# Altium footprint library 1-826631-0.PcbLib: 1 footprints
Each footprint in its own frame and in the unit in brackets; x right, y up, seen from the top. Pads: shape width x height; smd on the part's side, far side on the other; paste and mask are expansions set on the pad; w line width, h text height; cw(c..) or ccw(c..) is an arc to the next point about the centre after c.
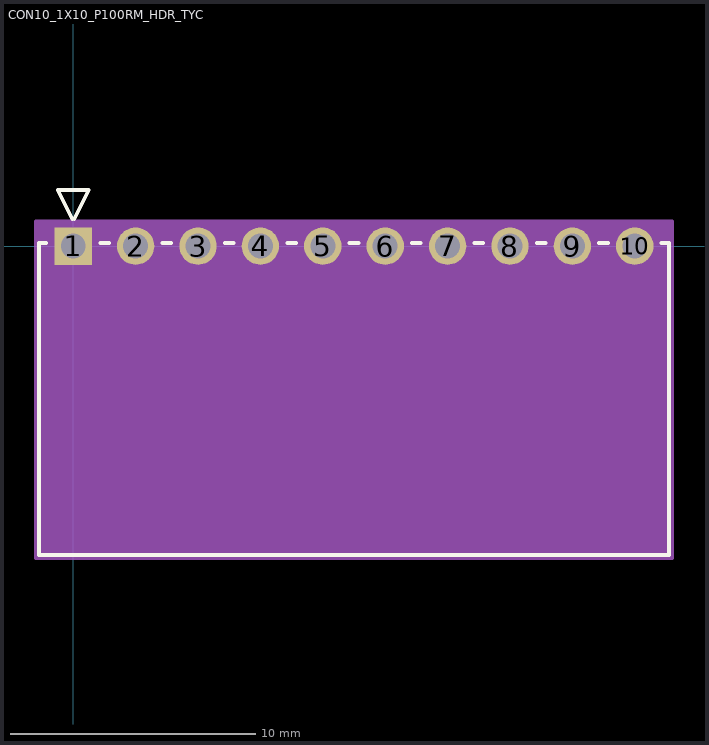
[diagram p0: the footprint, top view; thin cyan lines are the x and y axes]

## CON10_1X10_P100RM_HDR_TYC [mil]
pads (10):
  rect 60x60 / inner round 60 / far side rect 60x60 hole 40 paste-30 mask+0: 1(0,0)
  round 60 hole 40 paste-30 mask+0: 2(100,0) 3(200,0) 4(300,0) 5(400,0) 6(500,0) 7(600,0) 8(700,0) 9(800,0) 10(900,0)
Top Overlay:
  lines w6: -43.1,5 -55,5 -55,-495 955,-495 955,5 942.81,5 ; -1.55,43.1 -25,90 25,90 1.55,43.1 ; 43.1,5 57.19,5 ; 142.81,5 157.19,5 ; 242.81,5 257.19,5 ; 342.81,5 357.19,5 ; 442.81,5 457.19,5 ; 542.81,5 557.19,5 ; 642.81,5 657.19,5 ; 742.81,5 757.19,5 ; 842.81,5 857.19,5
Mechanical 13:
  lines w1: -50,-490 -50,0 950,0 950,-490 -50,-490 ; -25,90 25,90 0,40 -25,90
Mechanical 15:
  region: 960,40 -60,40 -60,-500 960,-500
  lines w6: -60,-500 960,-500 960,40 -60,40 -60,-500
3D body "CON10_1X10_P100RM_HDR_TYC.step": height 100, standoff -250, extent -50,-490 950,15